# Altium integrated library nrf52840_ckaa.IntLib: 10 symbols
Pins are listed as number, name and electrical type; pins without a type are passive.

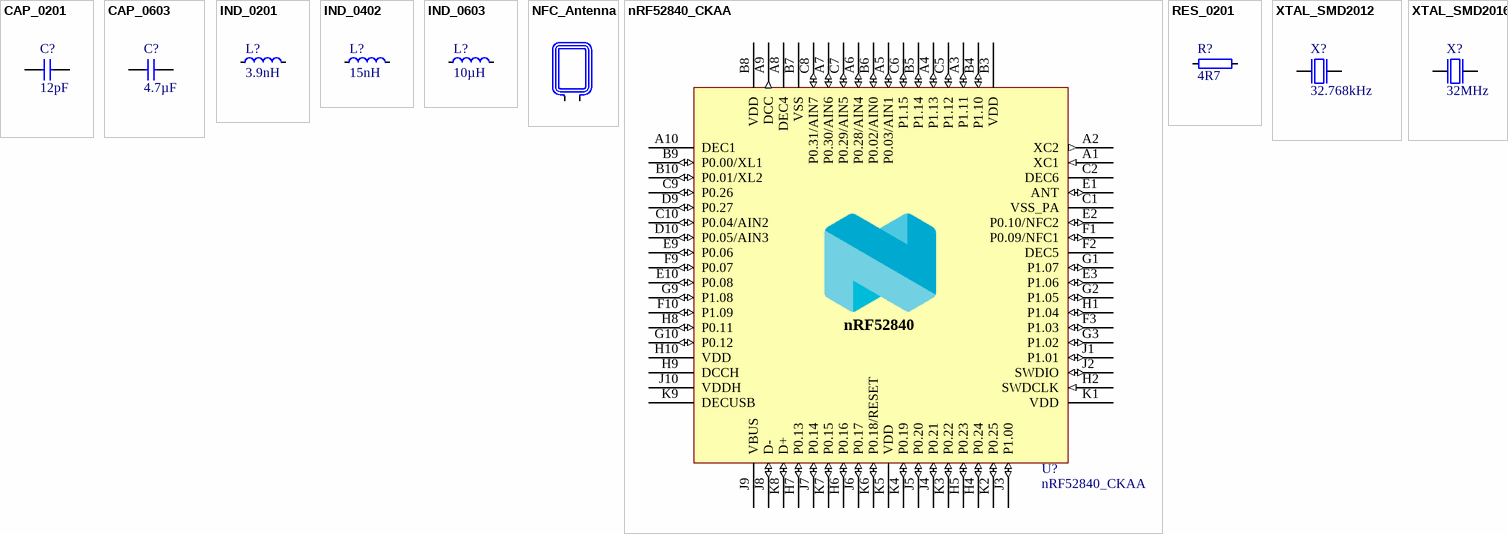
[diagram p0: symbols CAP_0201 to XTAL_SMD2016]

## CAP_0201
designator C?, comment 12pF
Capacitor, NP0, ±2%; Part Number: C0201-12p; LatestRevisionDate: 2017-11-09; Pin Count: 2; Publisher: Nordic Semiconductor; Published: 2014-11-13; Value: 12pF; Footprint Doc: 0201; Manufacturer: *; Manufacturer Part Number: *
footprint CAPC0603X03L_C
pins: 1, 2

## CAP_0603
designator C?, comment 4.7µF
Capacitor, X7R, ±10%; Part Number: C0603-4µ7-6.3V-X7R; LatestRevisionDate: 2015-06-10; Pin Count: 2; Publisher: Nordic Semiconductor; Published: 2015-06-10; Value: 4.7µF; Footprint Doc: 0603
footprint CAPC1608X06L
pins: 1, 2

## IND_0201
designator L?, comment 3.9nH
High frequency chip inductor ±5%; Part Number: L0201-3n9; Manufacturer: *; Manufacturer Part Number: *; LatestRevisionDate: 2017-11-09; Pin Count: 2; Publisher: Nordic Semiconductor; Published: 2013-04-10; Value: 3.9nH; Footprint Doc: 0201
footprint INDC0603X03L_C
pins: 1, 2

## IND_0402
designator L?, comment 15nH
High frequency chip inductor ±10%; Part Number: L0402-15n; LatestRevisionDate: 2012-09-19; Pin Count: 2; Publisher: Nordic Semiconductor; Published: 2010-07-12; Value: 15nH; Footprint Doc: 0402
footprint INDC1005X04L
pins: 1, 2

## IND_0603
designator L?, comment 10µH
Chip inductor, IDC,min = 50 mA, ±20%; Part Number: L0603-10µ; LatestRevisionDate: 2012-09-19; Pin Count: 2; Publisher: Nordic Semiconductor; Published: 2010-02-24; Value: 10µH; Footprint Doc: 0603
footprint INDC1608X06L
pins: 1, 2

## NFC_Antenna
designator A?, comment NFC Antenna  (value not drawn)  (no BOM)
Part Number: NFC_ANT_TP; Footprint Doc: TP_2x1mm_TH; LatestRevisionDate: 2016-02-23; Pin Count: 2; Publisher: Nordic Semiconductor; Published: 2016-02-23; Value: NFC Antenna; Manufacturer: *; Manufacturer Part Number: *
footprint TP_2x1mm_TH
pins: 1, 2

## nRF52840_CKAA
designator U?
Multi-protocol Bluetooth Low Energy, IEEE 802.15.4, ANT and 2.4GHz proprietary system-on-chip; Part Number: nRF52840-CKAAD0; Manufacturer: Nordic Semiconductor; LatestRevisionDate: 2018-12-17; Pin Count: 94; Publisher: Nordic Semiconductor; Published: 2018-12-17; Value: nRF52840_CKAA; Footprint Doc: WLCSP-94; Manufacturer Part Number: nRF52840-CKAAD0
footprint BGA94C35P10X10_352X356X50
pins: A1 XC1 (in), A2 XC2 (out), A3 P1.11 (io), A4 P1.13 (io), A5 P0.03/AIN1 (io), A6 P0.28/AIN4 (io), A7 P0.30/AIN6 (io), A8 DEC4 (power), A9 DCC (out), A10 DEC1 (power), B3 VDD (power), B4 P1.10 (io), B5 P1.14 (io), B6 P0.02/AIN0 (io), B7 VSS (power), B8 VDD (power), B9 P0.00/XL1 (io), B10 P0.01/XL2 (io), C1 VSS_PA (power), C2 DEC6 (power), C4 GND (power) hidden to GND, C5 P1.12 (io), C6 P1.15 (io), C7 P0.29/AIN5 (io), C8 P0.31/AIN7 (io), C9 P0.26 (io), C10 P0.04/AIN2 (io), D3 GND (power) hidden to GND, D4 GND (power) hidden to GND, D5 GND (power) hidden to GND, D6 GND (power) hidden to GND, D7 GND (power) hidden to GND, D8 GND (power) hidden to GND, D9 P0.27 (io), D10 P0.05/AIN3 (io), E1 ANT (io), E2 P0.10/NFC2 (io), E3 P1.06 (io), E4 GND (power) hidden to GND, E5 GND (power) hidden to GND, E6 GND (power) hidden to GND, E7 GND (power) hidden to GND, E8 GND (power) hidden to GND, E9 P0.06 (io), E10 P0.08 (io), F1 P0.09/NFC1 (io), F2 DEC5 (power), F3 P1.03 (io), F4 GND (power) hidden to GND, F5 GND (power) hidden to GND, F6 GND (power) hidden to GND, F7 GND (power) hidden to GND, F8 GND (power) hidden to GND, F9 P0.07 (io), F10 P1.09 (io), G1 P1.07 (io), G2 P1.05 (io), G3 P1.02 (io), G4 GND (power) hidden to GND, G5 GND (power) hidden to GND, G6 GND (power) hidden to GND, G7 GND (power) hidden to GND, G8 GND (power) hidden to GND, G9 P1.08 (io), G10 P0.12 (io), H1 P1.04 (io), H2 SWDCLK (in), H4 P0.24 (io), H5 P0.23 (io), H6 P0.16 (io), H7 P0.13 (io), H8 P0.11 (io), H9 DCCH (power), H10 VDD (power), J1 P1.01 (io), J2 SWDIO (io), J3 P1.00 (io), J4 P0.21 (io), J5 P0.20 (io), J6 P0.17 (io), J7 P0.14 (io), J8 D- (io), J9 VBUS (power), J10 VDDH (power), K1 VDD (power), K2 P0.25 (io), K3 P0.22 (io), K4 P0.19 (io), K5 VDD (power), K6 P0.18/RESET (io), K7 P0.15 (io), K8 D+ (io), K9 DECUSB (power), K10 GND (power) hidden to GND
text: nRF52840

## RES_0201
designator R?, comment 4R7
Resistor, ±1%, 0.05W; Part Number: R0201-4R7; Note: Chip Res 1%; Artikkelnr Noca: N.A.; Manufacturer: *; Manufacturer Part Number: *; ComponentLink1URL: *; ComponentLink1Description: Datasheet; ComponentLink2URL: *; ComponentLink2Description: Supplier link; HelpURL: *; Footprint Doc: 0201; LatestRevisionDate: 2014-11-13; Pin Count: 2; Publisher: Nordic Semiconductor; Published: 2014-11-13; Value: 4R7; Supplier 1: *; Supplier Part Number 1: *; Supplier 2: *; Supplier Part Number 2: *; Part number IPS: N.A.
footprint RESC0603X03L_C
pins: 1, 2

## XTAL_SMD2012
designator X?, comment 32.768kHz
XTAL SMD 2012, 32.768kHz, Cl=9pF, Total Tol: ±50ppm; Part Number: XTAL_SMD2012_32.768kHz_9pF_General; LatestRevisionDate: 2017-01-11; Pin Count: 2; Publisher: Nordic Semiconductor; Published: 2016-08-19; Value: 32.768kHz; Footprint Doc: XTAL_2012; Manufacturer: *; Manufacturer Part Number: *
footprint XTAL_2012
pins: 1 inp, 2 out

## XTAL_SMD2016
designator X?, comment 32MHz
XTAL SMD 2016, 32MHz, Cl=8pF, Total Tol: ±40ppm; Part Number: XTAL_SMD2016_32MHz_8pF_General; LatestRevisionDate: 2016-08-19; Pin Count: 4; Publisher: Nordic Semiconductor; Published: 2016-08-19; Value: 32MHz; Footprint Doc: XTAL_2016; Manufacturer: *; Manufacturer Part Number: *
footprint BT-XTAL_2016
pins: 1 inp, 2 GND hidden to GND, 3 out, 4 GND hidden to GND